# Altium schematic symbol library 平衡车.SchLib: 11 symbols
Pins are listed as number, name and electrical type; pins without a type are passive.

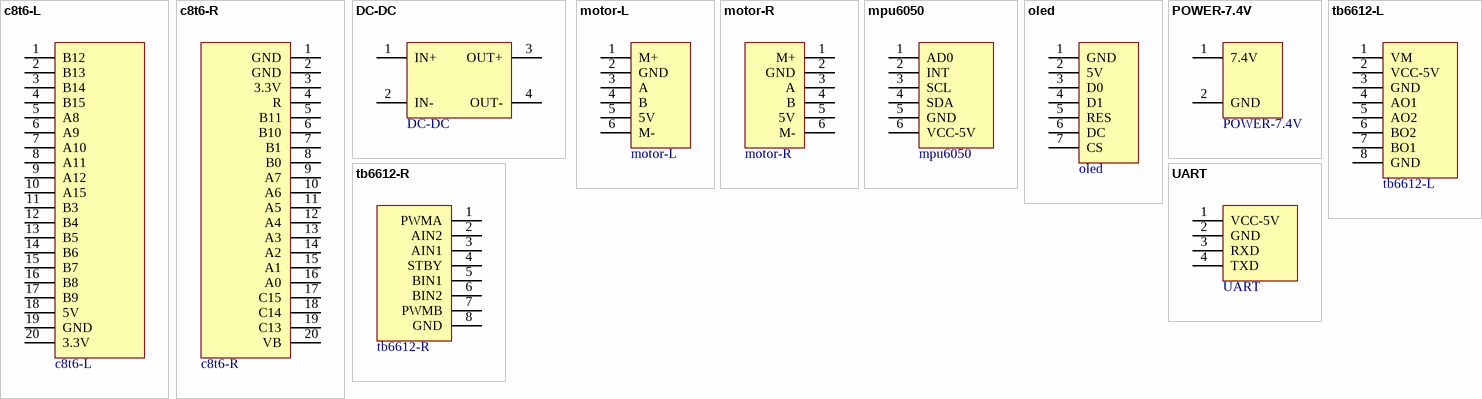
[diagram p0: symbols c8t6-L to UART]

## c8t6-L
designator c8t6-L?
footprint HDR2.54-M-LI-20P (排母，20脚)
pins: 1 B12, 2 B13, 3 B14, 4 B15, 5 A8, 6 A9, 7 A10, 8 A11, 9 A12, 10 A15, 11 B3, 12 B4, 13 B5, 14 B6, 15 B7, 16 B8, 17 B9, 18 5V, 19 GND, 20 3.3V

## c8t6-R
designator c8t6-R?
footprint HDR2.54-M-LI-20P (排母，20脚)
pins: 1 GND, 2 GND, 3 3.3V, 4 R, 5 B11, 6 B10, 7 B1, 8 B0, 9 A7, 10 A6, 11 A5, 12 A4, 13 A3, 14 A2, 15 A1, 16 A0, 17 C15, 18 C14, 19 C13, 20 VB

## DC-DC
designator DC-DC?
footprint DC-DC
pins: 1 IN+, 2 IN-, 3 OUT+, 4 OUT-

## motor-L
designator motor-L?
footprint HDR2.54-WI-6P (弯脚排针，6脚)
pins: 1 M+, 2 GND, 3 A, 4 B, 5 5V, 6 M-

## motor-R
designator motor-R?
footprint HDR2.54-WI-6P (弯脚排针，6脚)
pins: 1 M+, 2 GND, 3 A, 4 B, 5 5V, 6 M-

## mpu6050
designator mpu?
footprint HDR2.54-M-LI-6P (排母，6脚)
pins: 1 AD0, 2 INT, 3 SCL, 4 SDA, 5 GND, 6 VCC-5V

## oled
designator oled?
footprint HDR2.54-M-LI-7P (排母，7脚)
pins: 1 GND, 2 5V, 3 D0, 4 D1, 5 RES, 6 DC, 7 CS

## POWER-7.4V
designator POWER-7.4V?
footprint HDR2.54-LI-2P (排针，2脚                         联系卖家 免费查找封装)
pins: 1 7.4V, 2 GND

## tb6612-L
designator tb6612-L?
footprint HDR2.54-M-LI-8P (排母，8脚)
pins: 1 VM, 2 VCC-5V, 3 GND, 4 AO1, 5 AO2, 6 BO2, 7 BO1, 8 GND

## tb6612-R
designator tb6612-R?
footprint HDR2.54-M-LI-8P (排母，8脚)
pins: 1 PWMA, 2 AIN2, 3 AIN1, 4 STBY, 5 BIN1, 6 BIN2, 7 PWMB, 8 GND

## UART
designator UART?
footprint HDR2.54-M-LI-4P (排母，4脚)
pins: 1 VCC-5V, 2 GND, 3 RXD, 4 TXD